# Altium schematic symbol library ALTERA.SCHLIB: 27 symbols
Pins are listed as number, name and electrical type; pins without a type are passive.

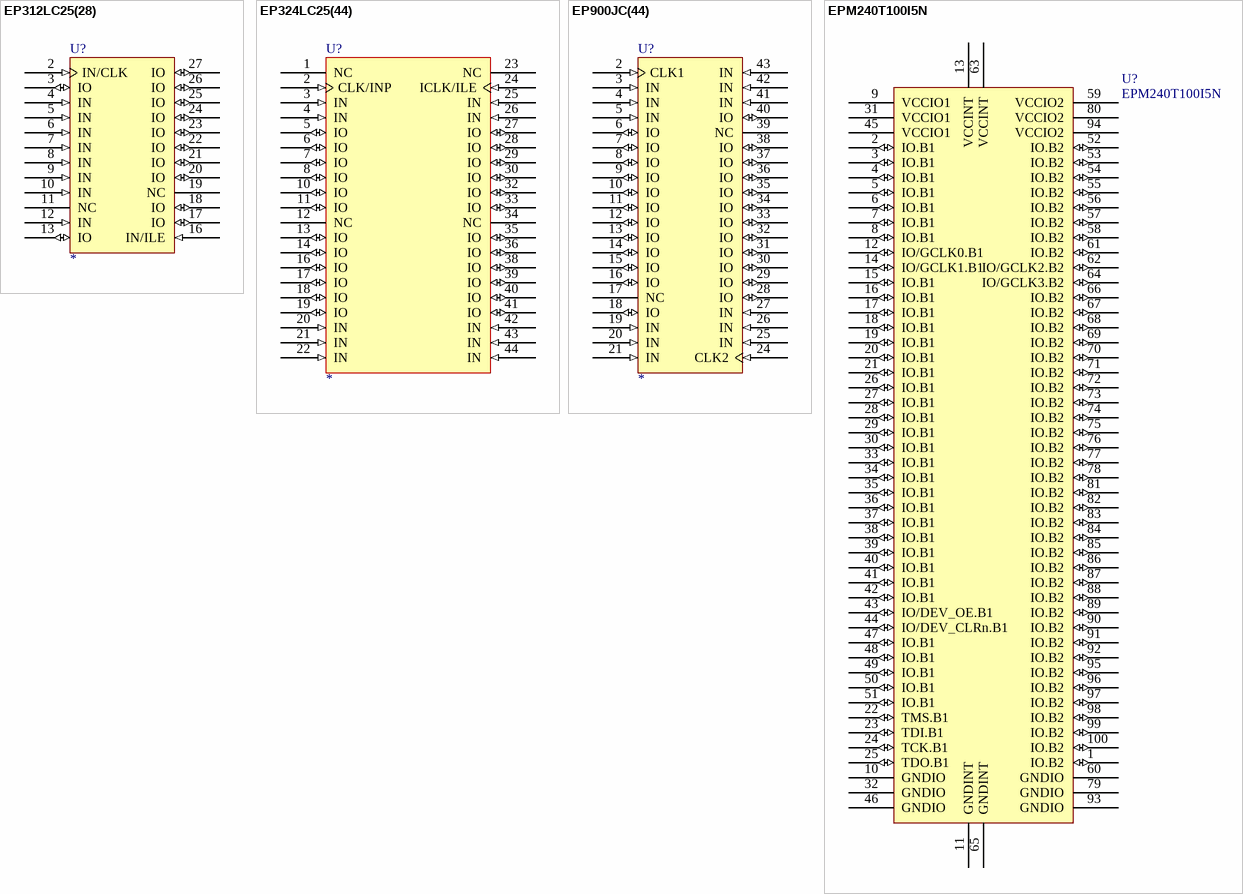
[diagram p0: symbols EP312LC25(28) to EPM240T100I5N]

## EP312LC25(28)
designator U?
ERASABLE PROGRAMMABLE LOGIC DEVICE(8-MACROCELL)
pins: 1 VCC (power) hidden to VCC, 2 IN/CLK (in), 3 IO (io), 4 IN (in), 5 IN (in), 6 IN (in), 7 IN (in), 8 IN (in), 9 IN (in), 10 IN (in), 11 NC, 12 IN (in), 13 IO (io), 14 GND (power) hidden to GND, 15 GND (power) hidden to GND, 16 IN/ILE (in), 17 IO (io), 18 IO (io), 19 NC, 20 IO (io), 21 IO (io), 22 IO (io), 23 IO (io), 24 IO (io), 25 IO (io), 26 IO (io), 27 IO (io), 28 VCC (power) hidden to VCC

## EP324LC25(44)
designator U?
ERASABLE PROGRAMMABLE LOGIC DEVICE(8-MACROCELL)
footprint PLCC44
pins: 1 NC, 2 CLK/INP (in), 3 IN (in), 4 IN (in), 5 IO (io), 6 IO (io), 7 IO (io), 8 IO (io), 9 GND (power) hidden to GND, 10 IO (io), 11 IO (io), 12 NC, 13 IO (io), 14 IO (io), 15 VCC (power) hidden to VCC, 16 IO (io), 17 IO (io), 18 IO (io), 19 IO (io), 20 IN (in), 21 IN (in), 22 IN (in), 23 NC, 24 ICLK/ILE (in), 25 IN (in), 26 IN (in), 27 IO (io), 28 IO (io), 29 IO (io), 30 IO (io), 31 GND (power) hidden to GND, 32 IO (io), 33 IO (io), 34 NC, 35 IO (io), 36 IO (io), 37 VCC (power) hidden to VCC, 38 IO (io), 39 IO (io), 40 IO (io), 41 IO (io), 42 IN (in), 43 IN (in), 44 IN (in)

## EP900JC(44)
designator U?
CLASSIC ERASABLE PROGRAMMABLE LOGIC DEVICE(24-MACROCELL)
footprint PLCC44
pins: 1 VCC (power) hidden to VCC, 2 CLK1 (in), 3 IN (in), 4 IN (in), 5 IN (in), 6 IO (io), 7 IO (io), 8 IO (io), 9 IO (io), 10 IO (io), 11 IO (io), 12 IO (io), 13 IO (io), 14 IO (io), 15 IO (io), 16 IO (io), 17 NC, 18 IO (io), 19 IN (in), 20 IN (in), 21 IN (in), 22 GND (power) hidden to GND, 23 GND (power) hidden to GND, 24 CLK2 (in), 25 IN (in), 26 IN (in), 27 IN (in), 28 IO (io), 29 IO (io), 30 IO (io), 31 IO (io), 32 IO (io), 33 IO (io), 34 IO (io), 35 IO (io), 36 IO (io), 37 IO (io), 38 IO (io), 39 NC, 40 IO (io), 41 IN (in), 42 IN (in), 43 IN (in), 44 VCC (power) hidden to VCC

## EPM240T100I5N
designator U?
Value: EPM240T100I5N
footprint MS-026BED
pins: 1 IO.B2 (io), 2 IO.B1 (io), 3 IO.B1 (io), 4 IO.B1 (io), 5 IO.B1 (io), 6 IO.B1 (io), 7 IO.B1 (io), 8 IO.B1 (io), 9 VCCIO1 (power), 10 GNDIO (power), 11 GNDINT (power), 12 IO/GCLK0.B1 (io), 13 VCCINT (power), 14 IO/GCLK1.B1 (io), 15 IO.B1 (io), 16 IO.B1 (io), 17 IO.B1 (io), 18 IO.B1 (io), 19 IO.B1 (io), 20 IO.B1 (io), 21 IO.B1 (io), 22 TMS.B1 (io), 23 TDI.B1 (io), 24 TCK.B1 (io), 25 TDO.B1 (io), 26 IO.B1 (io), 27 IO.B1 (io), 28 IO.B1 (io), 29 IO.B1 (io), 30 IO.B1 (io), 31 VCCIO1 (power), 32 GNDIO (power), 33 IO.B1 (io), 34 IO.B1 (io), 35 IO.B1 (io), 36 IO.B1 (io), 37 IO.B1 (io), 38 IO.B1 (io), 39 IO.B1 (io), 40 IO.B1 (io), 41 IO.B1 (io), 42 IO.B1 (io), 43 IO/DEV_OE.B1 (io), 44 IO/DEV_CLRn.B1 (io), 45 VCCIO1 (power), 46 GNDIO (power), 47 IO.B1 (io), 48 IO.B1 (io), 49 IO.B1 (io), 50 IO.B1 (io), 51 IO.B1 (io), 52 IO.B2 (io), 53 IO.B2 (io), 54 IO.B2 (io), 55 IO.B2 (io), 56 IO.B2 (io), 57 IO.B2 (io), 58 IO.B2 (io), 59 VCCIO2 (power), 60 GNDIO (power), 61 IO.B2 (io), 62 IO/GCLK2.B2 (io), 63 VCCINT (power), 64 IO/GCLK3.B2 (io), 65 GNDINT (power), 66 IO.B2 (io), 67 IO.B2 (io), 68 IO.B2 (io), 69 IO.B2 (io), 70 IO.B2 (io), 71 IO.B2 (io), 72 IO.B2 (io), 73 IO.B2 (io), 74 IO.B2 (io), 75 IO.B2 (io), 76 IO.B2 (io), 77 IO.B2 (io), 78 IO.B2 (io), 79 GNDIO (power), 80 VCCIO2 (power), 81 IO.B2 (io), 82 IO.B2 (io), 83 IO.B2 (io), 84 IO.B2 (io), 85 IO.B2 (io), 86 IO.B2 (io), 87 IO.B2 (io), 88 IO.B2 (io), 89 IO.B2 (io), 90 IO.B2 (io), 91 IO.B2 (io), 92 IO.B2 (io), 93 GNDIO (power), 94 VCCIO2 (power), 95 IO.B2 (io), 96 IO.B2 (io), 97 IO.B2 (io), 98 IO.B2 (io), 99 IO.B2 (io), 100 IO.B2 (io)

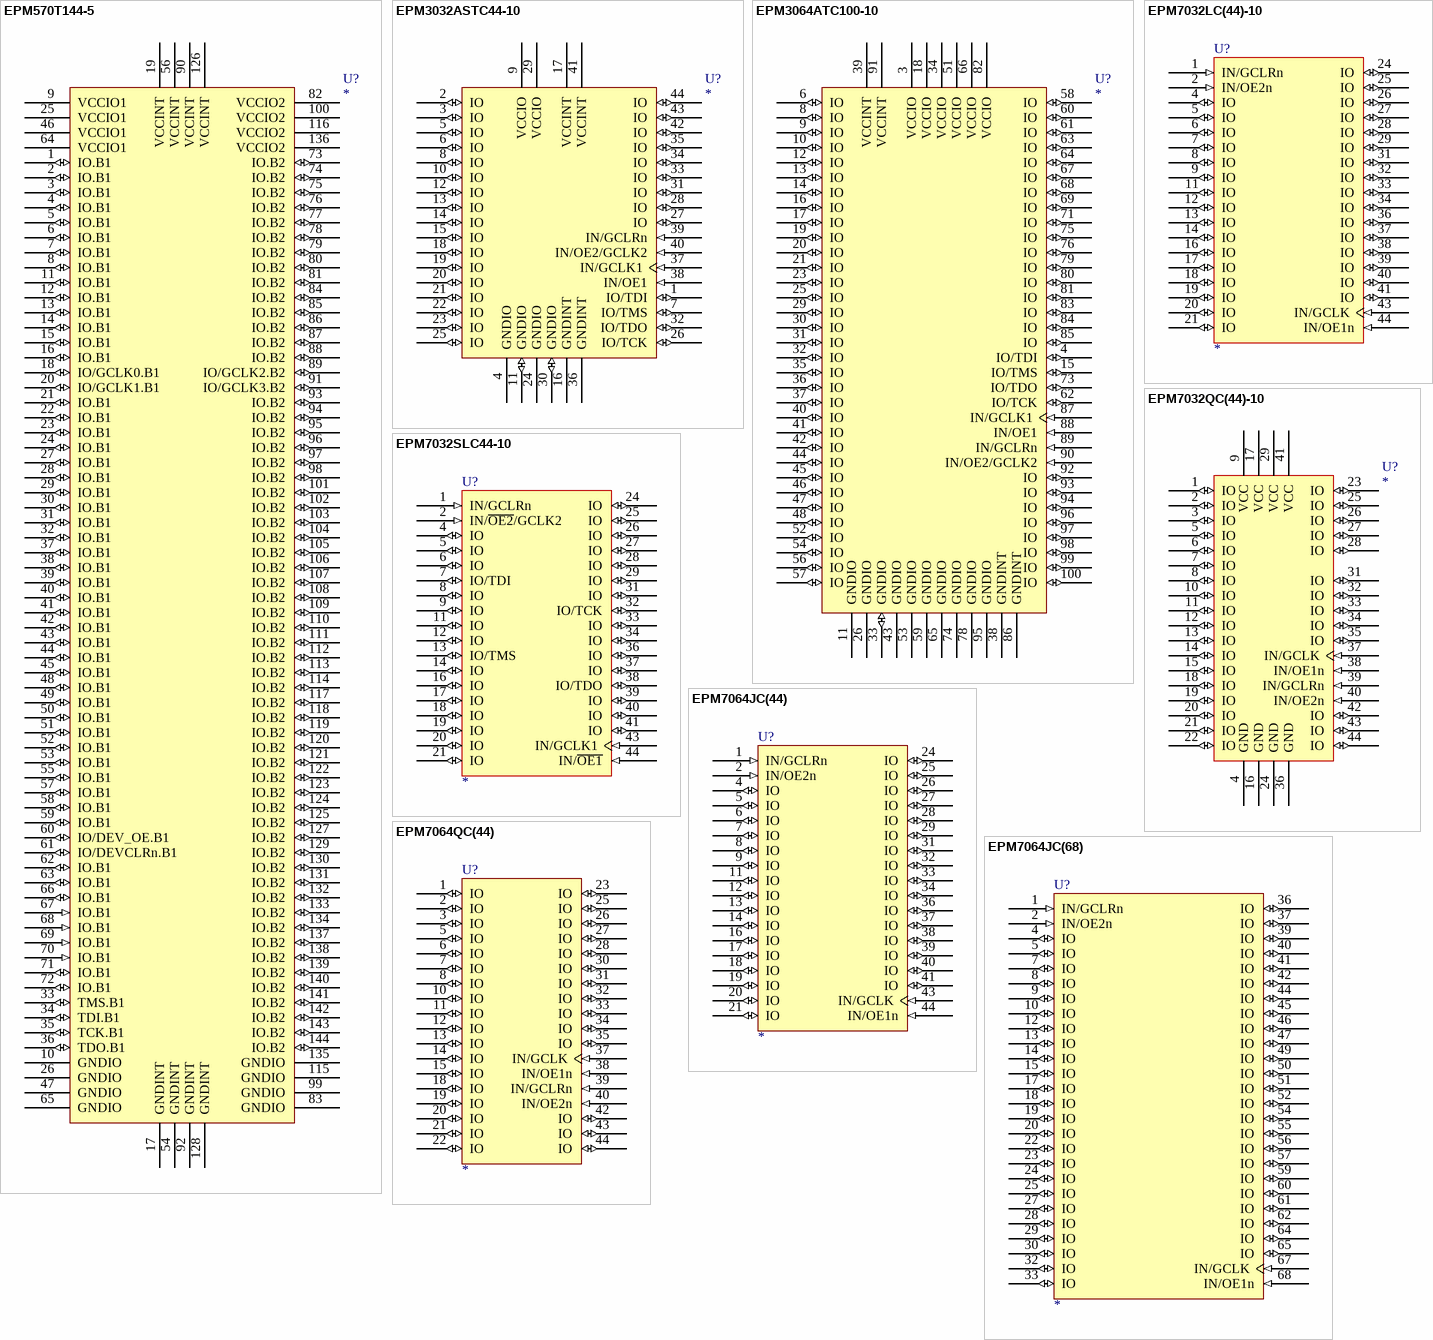
[diagram p1: symbols EPM570T144-5 to EPM7064QC(44)]

## EPM570T144-5
designator U?
footprint MS-026BFB
pins: 1 IO.B1 (io), 2 IO.B1 (io), 3 IO.B1 (io), 4 IO.B1 (io), 5 IO.B1 (io), 6 IO.B1 (io), 7 IO.B1 (io), 8 IO.B1 (io), 9 VCCIO1 (power), 10 GNDIO (power), 11 IO.B1 (io), 12 IO.B1 (io), 13 IO.B1 (io), 14 IO.B1 (io), 15 IO.B1 (io), 16 IO.B1 (io), 17 GNDINT (power), 18 IO/GCLK0.B1 (io), 19 VCCINT (power), 20 IO/GCLK1.B1 (io), 21 IO.B1 (io), 22 IO.B1 (io), 23 IO.B1 (io), 24 IO.B1 (io), 25 VCCIO1 (power), 26 GNDIO (power), 27 IO.B1 (io), 28 IO.B1 (io), 29 IO.B1 (io), 30 IO.B1 (io), 31 IO.B1 (io), 32 IO.B1 (io), 33 TMS.B1 (io), 34 TDI.B1 (io), 35 TCK.B1 (io), 36 TDO.B1 (io), 37 IO.B1 (io), 38 IO.B1 (io), 39 IO.B1 (io), 40 IO.B1 (io), 41 IO.B1 (io), 42 IO.B1 (io), 43 IO.B1 (io), 44 IO.B1 (io), 45 IO.B1 (io), 46 VCCIO1 (power), 47 GNDIO (power), 48 IO.B1 (io), 49 IO.B1 (io), 50 IO.B1 (io), 51 IO.B1 (io), 52 IO.B1 (io), 53 IO.B1 (io), 54 GNDINT (power), 55 IO.B1 (io), 56 VCCINT (power), 57 IO.B1 (io), 58 IO.B1 (io), 59 IO.B1 (io), 60 IO/DEV_OE.B1 (io), 61 IO/DEVCLRn.B1 (io), 62 IO.B1 (io), 63 IO.B1 (io), 64 VCCIO1 (power), 65 GNDIO (power), 66 IO.B1 (io), 67 IO.B1 (in), 68 IO.B1 (in), 69 IO.B1 (in), 70 IO.B1 (in), 71 IO.B1 (io), 72 IO.B1 (io), 73 IO.B2 (io), 74 IO.B2 (io), 75 IO.B2 (io), 76 IO.B2 (io), 77 IO.B2 (io), 78 IO.B2 (io), 79 IO.B2 (io), 80 IO.B2 (io), 81 IO.B2 (io), 82 VCCIO2 (power), 83 GNDIO (power), 84 IO.B2 (io), 85 IO.B2 (io), 86 IO.B2 (io), 87 IO.B2 (io), 88 IO.B2 (io), 89 IO/GCLK2.B2 (io), 90 VCCINT (power), 91 IO/GCLK3.B2 (io), 92 GNDINT (power), 93 IO.B2 (io), 94 IO.B2 (io), 95 IO.B2 (io), 96 IO.B2 (io), 97 IO.B2 (io), 98 IO.B2 (io), 99 GNDIO (power), 100 VCCIO2 (power), 101 IO.B2 (io), 102 IO.B2 (io), 103 IO.B2 (io), 104 IO.B2 (io), 105 IO.B2 (io), 106 IO.B2 (io), 107 IO.B2 (io), 108 IO.B2 (io), 109 IO.B2 (io), 110 IO.B2 (io), 111 IO.B2 (io), 112 IO.B2 (io), 113 IO.B2 (io), 114 IO.B2 (io), 115 GNDIO (power), 116 VCCIO2 (power), 117 IO.B2 (io), 118 IO.B2 (io), 119 IO.B2 (io), 120 IO.B2 (io), 121 IO.B2 (io), 122 IO.B2 (io), 123 IO.B2 (io), 124 IO.B2 (io), 125 IO.B2 (io), 126 VCCINT (power), 127 IO.B2 (io), 128 GNDINT (power), 129 IO.B2 (io), 130 IO.B2 (io), 131 IO.B2 (io), 132 IO.B2 (io), 133 IO.B2 (io), 134 IO.B2 (io), 135 GNDIO (power), 136 VCCIO2 (power), 137 IO.B2 (io), 138 IO.B2 (io), 139 IO.B2 (io), 140 IO.B2 (io), 141 IO.B2 (io), 142 IO.B2 (io), 143 IO.B2 (io), 144 IO.B2 (io)

## EPM3032ASTC44-10
designator U?
footprint MS-026BCB
pins: 1 IO/TDI (io), 2 IO (io), 3 IO (io), 4 GNDIO (power), 5 IO (io), 6 IO (io), 7 IO/TMS (io), 8 IO (io), 9 VCCIO (power), 10 IO (io), 11 GNDIO (io), 12 IO (io), 13 IO (io), 14 IO (io), 15 IO (io), 16 GNDINT (power), 17 VCCINT (power), 18 IO (io), 19 IO (io), 20 IO (io), 21 IO (io), 22 IO (io), 23 IO (io), 24 GNDIO (power), 25 IO (io), 26 IO/TCK (io), 27 IO (io), 28 IO (io), 29 VCCIO (power), 30 GNDIO (io), 31 IO (io), 32 IO/TDO (io), 33 IO (io), 34 IO (io), 35 IO (io), 36 GNDINT (power), 37 IN/GCLK1 (in), 38 IN/OE1 (in), 39 IN/GCLRn (in), 40 IN/OE2/GCLK2 (in), 41 VCCINT (power), 42 IO (io), 43 IO (io), 44 IO (io)

## EPM3064ATC100-10
designator U?
footprint MS-026BED
pins: 3 VCCIO (power), 4 IO/TDI (io), 6 IO (io), 8 IO (io), 9 IO (io), 10 IO (io), 11 GNDIO (power), 12 IO (io), 13 IO (io), 14 IO (io), 15 IO/TMS (io), 16 IO (io), 17 IO (io), 18 VCCIO (power), 19 IO (io), 20 IO (io), 21 IO (io), 23 IO (io), 25 IO (io), 26 GNDIO (power), 29 IO (io), 30 IO (io), 31 IO (io), 32 IO (io), 33 GNDIO (io), 34 VCCIO (power), 35 IO (io), 36 IO (io), 37 IO (io), 38 GNDINT (power), 39 VCCINT (power), 40 IO (io), 41 IO (io), 42 IO (io), 43 GNDIO (power), 44 IO (io), 45 IO (io), 46 IO (io), 47 IO (io), 48 IO (io), 51 VCCIO (power), 52 IO (io), 53 GNDIO, 54 IO (io), 56 IO (io), 57 IO (io), 58 IO (io), 59 GNDIO (power), 60 IO (io), 61 IO (io), 62 IO/TCK (io), 63 IO (io), 64 IO (io), 65 GNDIO (power), 66 VCCIO (power), 67 IO (io), 68 IO (io), 69 IO (io), 71 IO (io), 73 IO/TDO (io), 74 GNDIO (power), 75 IO (io), 76 IO (io), 78 GNDIO, 79 IO (io), 80 IO (io), 81 IO (io), 82 VCCIO (power), 83 IO (io), 84 IO (io), 85 IO (io), 86 GNDINT (power), 87 IN/GCLK1 (in), 88 IN/OE1 (in), 89 IN/GCLRn (in), 90 IN/OE2/GCLK2 (in), 91 VCCINT (power), 92 IO (io), 93 IO (io), 94 IO (io), 95 GNDIO (power), 96 IO (io), 97 IO (io), 98 IO (io), 99 IO (io), 100 IO (io)

## EPM7032LC(44)-10
designator U?
MAX7000 PROGRAMMABLE LOGIC DEVICE(32 MACRO CELLS)
footprint PLCC44
footprint PLCC44P
pins: 1 IN/GCLRn (in), 2 IN/OE2n (in), 3 VCC (power) hidden to VCC, 4 IO (io), 5 IO (io), 6 IO (io), 7 IO (io), 8 IO (io), 9 IO (io), 10 GND (power) hidden to GND, 11 IO (io), 12 IO (io), 13 IO (io), 14 IO (io), 15 VCC (power) hidden to VCC, 16 IO (io), 17 IO (io), 18 IO (io), 19 IO (io), 20 IO (io), 21 IO (io), 22 GND (power) hidden to GND, 23 VCC (power) hidden to VCC, 24 IO (io), 25 IO (io), 26 IO (io), 27 IO (io), 28 IO (io), 29 IO (io), 30 GND (power) hidden to GND, 31 IO (io), 32 IO (io), 33 IO (io), 34 IO (io), 35 VCC (power) hidden to VCC, 36 IO (io), 37 IO (io), 38 IO (io), 39 IO (io), 40 IO (io), 41 IO (io), 42 GND (power) hidden to GND, 43 IN/GCLK (in), 44 IN/OE1n (in)

## EPM7032QC(44)-10
designator U?
MAX7000 PROGRAMMABLE LOGIC DEVICE(32 MACRO CELLS)
pins: 1 IO (io), 2 IO (io), 3 IO (io), 4 GND, 5 IO (io), 6 IO (io), 7 IO (io), 8 IO (io), 9 VCC, 10 IO (io), 11 IO (io), 12 IO (io), 13 IO (io), 14 IO (io), 15 IO (io), 16 GND, 17 VCC, 18 IO (io), 19 IO (io), 20 IO (io), 21 IO (io), 22 IO (io), 23 IO (io), 24 GND, 25 IO (io), 26 IO (io), 27 IO (io), 28 IO (io), 29 VCC, 30 I/O (power) hidden to I/O, 31 IO (io), 32 IO (io), 33 IO (io), 34 IO (io), 35 IO (io), 36 GND, 37 IN/GCLK (in), 38 IN/OE1n (in), 39 IN/GCLRn (in), 40 IN/OE2n (in), 41 VCC, 42 IO (io), 43 IO (io), 44 IO (io)

## EPM7032SLC44-10
designator U?
footprint PLCC44P
footprint PLCC44
pins: 1 IN/GCLRn (in), 2 IN/~{OE2}/GCLK2 (in), 3 VCC (power) hidden to VCC, 4 IO (io), 5 IO (io), 6 IO (io), 7 IO/TDI (io), 8 IO (io), 9 IO (io), 10 GND (power) hidden to GND, 11 IO (io), 12 IO (io), 13 IO/TMS (io), 14 IO (io), 15 VCC (power) hidden to VCC, 16 IO (io), 17 IO (io), 18 IO (io), 19 IO (io), 20 IO (io), 21 IO (io), 22 GND (power) hidden to GND, 23 VCC (power) hidden to VCC, 24 IO (io), 25 IO (io), 26 IO (io), 27 IO (io), 28 IO (io), 29 IO (io), 30 GND (power) hidden to GND, 31 IO (io), 32 IO/TCK (io), 33 IO (io), 34 IO (io), 35 VCC (power) hidden to VCC, 36 IO (io), 37 IO (io), 38 IO/TDO (io), 39 IO (io), 40 IO (io), 41 IO (io), 42 GND (power) hidden to GND, 43 IN/GCLK1 (in), 44 IN/~{OE1} (in)

## EPM7064JC(44)
designator U?
MAX7000 PROGRAMMABLE LOGIC DEVICE(64 MACRO CELLS)
pins: 1 IN/GCLRn (in), 2 IN/OE2n (in), 3 VCCINT (power) hidden to VCCINT, 4 IO (io), 5 IO (io), 6 IO (io), 7 IO (io), 8 IO (io), 9 IO (io), 10 GND (power) hidden to GND, 11 IO (io), 12 IO (io), 13 IO (io), 14 IO (io), 15 VCCINT (power) hidden to VCCINT, 16 IO (io), 17 IO (io), 18 IO (io), 19 IO (io), 20 IO (io), 21 IO (io), 22 GND (power) hidden to GND, 23 VCCINT (power) hidden to VCCINT, 24 IO (io), 25 IO (io), 26 IO (io), 27 IO (io), 28 IO (io), 29 IO (io), 30 GND (power) hidden to GND, 31 IO (io), 32 IO (io), 33 IO (io), 34 IO (io), 35 VCCINT (power) hidden to VCCINT, 36 IO (io), 37 IO (io), 38 IO (io), 39 IO (io), 40 IO (io), 41 IO (io), 42 GND (power) hidden to GND, 43 IN/GCLK (in), 44 IN/OE1n (in)

## EPM7064JC(68)
designator U?
MAX7000 PROGRAMMABLE LOGIC DEVICE(64 MACRO CELLS)
footprint PLCC68
pins: 1 IN/GCLRn (in), 2 IN/OE2n (in), 3 VCCINT (power) hidden to VCCINT, 4 IO (io), 5 IO (io), 6 GND (power) hidden to GND, 7 IO (io), 8 IO (io), 9 IO (io), 10 IO (io), 11 VCCIO (power) hidden to VCCIO, 12 IO (io), 13 IO (io), 14 IO (io), 15 IO (io), 16 GND (power) hidden to GND, 17 IO (io), 18 IO (io), 19 IO (io), 20 IO (io), 21 VCCIO (power) hidden to VCCIO, 22 IO (io), 23 IO (io), 24 IO (io), 25 IO (io), 26 GND (power) hidden to GND, 27 IO (io), 28 IO (io), 29 IO (io), 30 IO (io), 31 VCCIO (power) hidden to VCCIO, 32 IO (io), 33 IO (io), 34 GND (power) hidden to GND, 35 VCCINT (power) hidden to VCCINT, 36 IO (io), 37 IO (io), 38 GND (power) hidden to GND, 39 IO (io), 40 IO (io), 41 IO (io), 42 IO (io), 43 VCCIO (power) hidden to VCCIO, 44 IO (io), 45 IO (io), 46 IO (io), 47 IO (io), 48 GND (power) hidden to GND, 49 IO (io), 50 IO (io), 51 IO (io), 52 IO (io), 53 VCCIO (power) hidden to VCCIO, 54 IO (io), 55 IO (io), 56 IO (io), 57 IO (io), 58 GND (power) hidden to GND, 59 IO (io), 60 IO (io), 61 IO (io), 62 IO (io), 63 VCCIO (power) hidden to VCCIO, 64 IO (io), 65 IO (io), 66 GND (power) hidden to GND, 67 IN/GCLK (in), 68 IN/OE1n (in)

## EPM7064QC(44)
designator U?
MAX7000 PROGRAMMABLE LOGIC DEVICE(64 MACRO CELLS)
pins: 1 IO (io), 2 IO (io), 3 IO (io), 4 GND (power) hidden to GND, 5 IO (io), 6 IO (io), 7 IO (io), 8 IO (io), 9 VCCINT (power) hidden to VCCINT, 10 IO (io), 11 IO (io), 12 IO (io), 13 IO (io), 14 IO (io), 15 IO (io), 16 GND (power) hidden to GND, 17 VCCINT (power) hidden to VCCINT, 18 IO (io), 19 IO (io), 20 IO (io), 21 IO (io), 22 IO (io), 23 IO (io), 24 GND (power) hidden to GND, 25 IO (io), 26 IO (io), 27 IO (io), 28 IO (io), 29 VCCINT (power) hidden to VCCINT, 30 IO (io), 31 IO (io), 32 IO (io), 33 IO (io), 34 IO (io), 35 IO (io), 36 GND (power) hidden to GND, 37 IN/GCLK (in), 38 IN/OE1n (in), 39 IN/GCLRn (in), 40 IN/OE2n (in), 41 VCCINT (power) hidden to VCCINT, 42 IO (io), 43 IO (io), 44 IO (io)

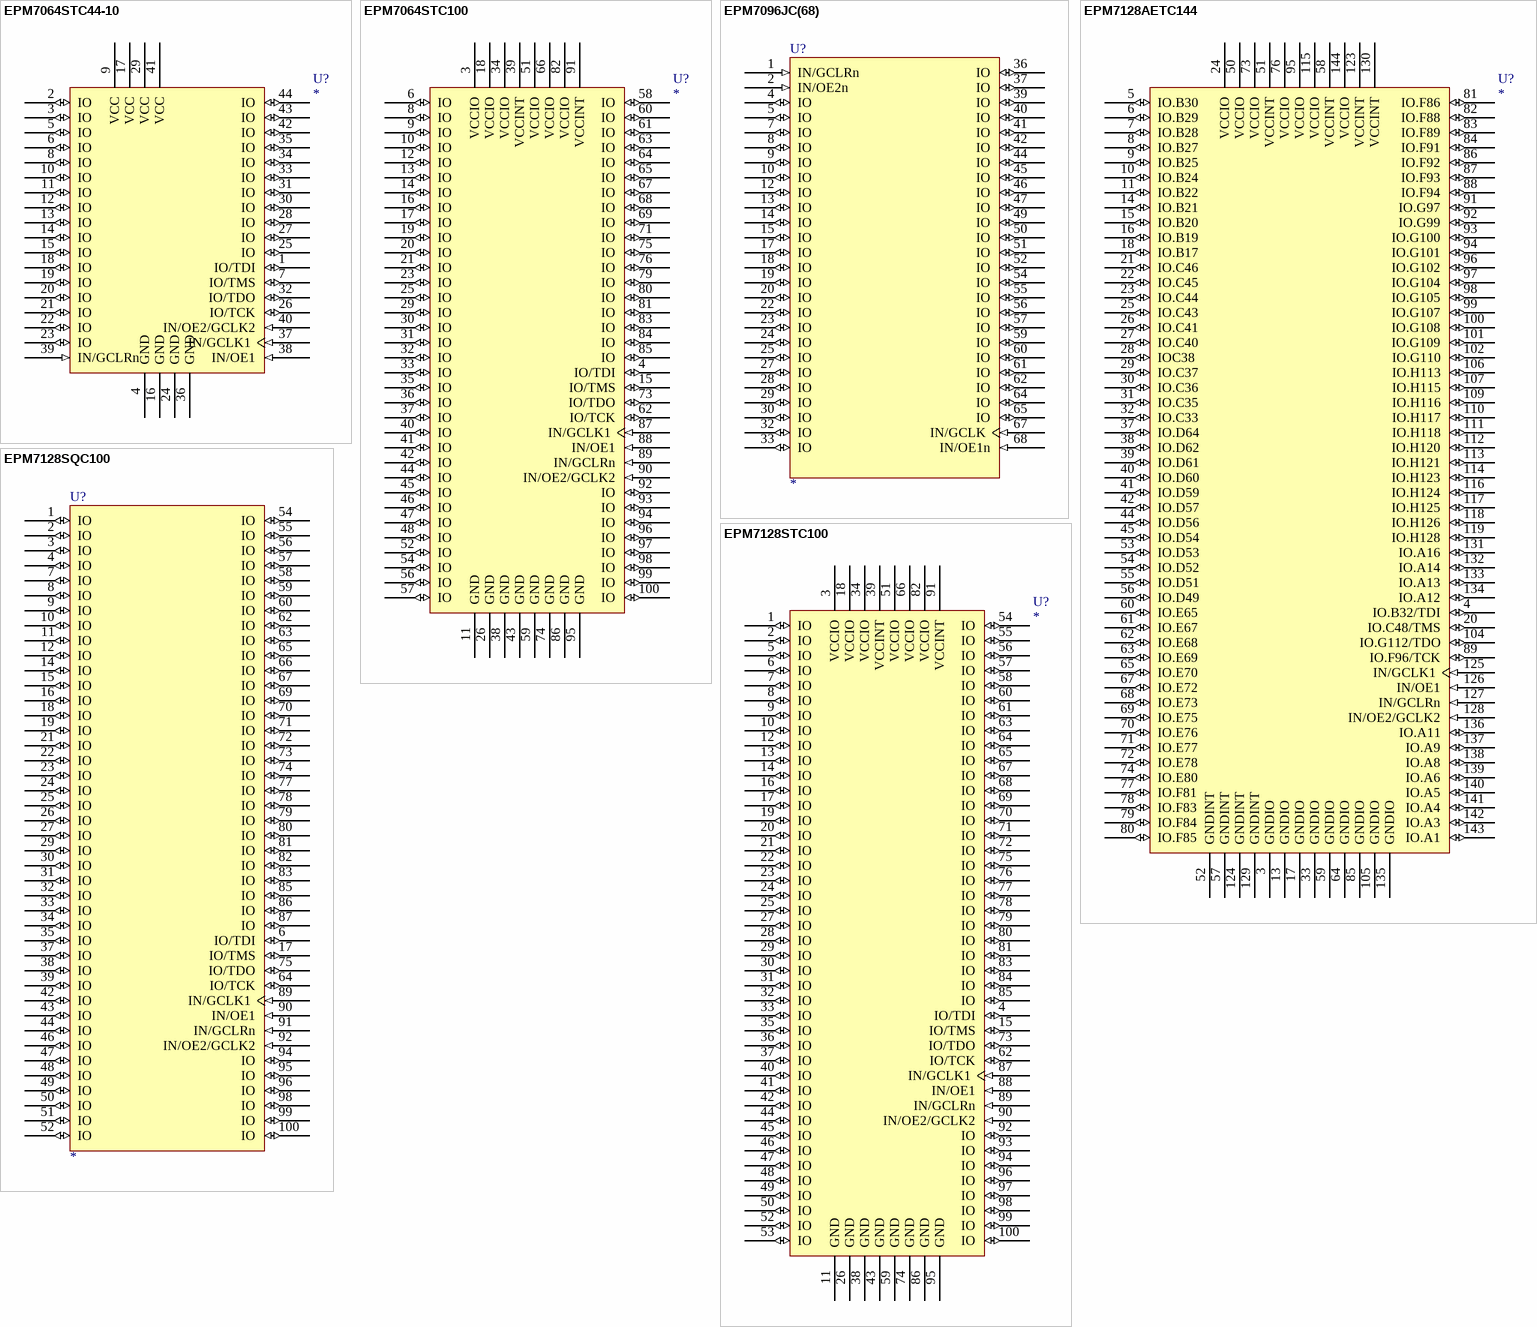
[diagram p2: symbols EPM7064STC44-10 to EPM7128STC100]

## EPM7064STC44-10
designator U?
footprint MS-026BCB
pins: 1 IO/TDI (io), 2 IO (io), 3 IO (io), 4 GND (power), 5 IO (io), 6 IO (io), 7 IO/TMS (io), 8 IO (io), 9 VCC (power), 10 IO (io), 11 IO (io), 12 IO (io), 13 IO (io), 14 IO (io), 15 IO (io), 16 GND (power), 17 VCC (power), 18 IO (io), 19 IO (io), 20 IO (io), 21 IO (io), 22 IO (io), 23 IO (io), 24 GND (power), 25 IO (io), 26 IO/TCK (io), 27 IO (io), 28 IO (io), 29 VCC (power), 30 IO (io), 31 IO (io), 32 IO/TDO (io), 33 IO (io), 34 IO (io), 35 IO (io), 36 GND (power), 37 IN/GCLK1 (in), 38 IN/OE1 (in), 39 IN/GCLRn (in), 40 IN/OE2/GCLK2 (in), 41 VCC (power), 42 IO (io), 43 IO (io), 44 IO (io)

## EPM7064STC100
designator U?
MAX7000 PROGRAMMABLE LOGIC DEVICE(128 MACRO CELLS)
footprint MS-026BED
pins: 3 VCCIO, 4 IO/TDI (io), 6 IO (io), 8 IO (io), 9 IO (io), 10 IO (io), 11 GND, 12 IO (io), 13 IO (io), 14 IO (io), 15 IO/TMS (io), 16 IO (io), 17 IO (io), 18 VCCIO, 19 IO (io), 20 IO (io), 21 IO (io), 23 IO (io), 25 IO (io), 26 GND, 29 IO (io), 30 IO (io), 31 IO (io), 32 IO (io), 33 IO (io), 34 VCCIO, 35 IO (io), 36 IO (io), 37 IO (io), 38 GND, 39 VCCINT, 40 IO (io), 41 IO (io), 42 IO (io), 43 GND, 44 IO (io), 45 IO (io), 46 IO (io), 47 IO (io), 48 IO (io), 51 VCCIO, 52 IO (io), 54 IO (io), 56 IO (io), 57 IO (io), 58 IO (io), 59 GND, 60 IO (io), 61 IO (io), 62 IO/TCK (io), 63 IO (io), 64 IO (io), 65 IO (io), 66 VCCIO, 67 IO (io), 68 IO (io), 69 IO (io), 71 IO (io), 73 IO/TDO (io), 74 GND, 75 IO (io), 76 IO (io), 79 IO (io), 80 IO (io), 81 IO (io), 82 VCCIO, 83 IO (io), 84 IO (io), 85 IO (io), 86 GND, 87 IN/GCLK1 (in), 88 IN/OE1 (in), 89 IN/GCLRn (in), 90 IN/OE2/GCLK2 (in), 91 VCCINT, 92 IO (io), 93 IO (io), 94 IO (io), 95 GND, 96 IO (io), 97 IO (io), 98 IO (io), 99 IO (io), 100 IO (io)

## EPM7096JC(68)
designator U?
MAX7000 PROGRAMMABLE LOGIC DEVICE(96 MACRO CELLS)
footprint PLCC68
pins: 1 IN/GCLRn (in), 2 IN/OE2n (in), 3 VCCINT (power) hidden to VCCINT, 4 IO (io), 5 IO (io), 6 GND (power) hidden to GND, 7 IO (io), 8 IO (io), 9 IO (io), 10 IO (io), 11 VCCIO (power) hidden to VCCIO, 12 IO (io), 13 IO (io), 14 IO (io), 15 IO (io), 16 GND (power) hidden to GND, 17 IO (io), 18 IO (io), 19 IO (io), 20 IO (io), 21 VCCIO (power) hidden to VCCIO, 22 IO (io), 23 IO (io), 24 IO (io), 25 IO (io), 26 GND (power) hidden to GND, 27 IO (io), 28 IO (io), 29 IO (io), 30 IO (io), 31 VCCIO (power) hidden to VCCIO, 32 IO (io), 33 IO (io), 34 GND (power) hidden to GND, 35 VCCINT (power) hidden to VCCINT, 36 IO (io), 37 IO (io), 38 GND (power) hidden to GND, 39 IO (io), 40 IO (io), 41 IO (io), 42 IO (io), 43 VCCIO (power) hidden to VCCIO, 44 IO (io), 45 IO (io), 46 IO (io), 47 IO (io), 48 GND (power) hidden to GND, 49 IO (io), 50 IO (io), 51 IO (io), 52 IO (io), 53 VCCIO (power) hidden to VCCIO, 54 IO (io), 55 IO (io), 56 IO (io), 57 IO (io), 58 GND (power) hidden to GND, 59 IO (io), 60 IO (io), 61 IO (io), 62 IO (io), 63 VCCIO (power) hidden to VCCIO, 64 IO (io), 65 IO (io), 66 GND (power) hidden to GND, 67 IN/GCLK (in), 68 IN/OE1n (in)

## EPM7128AETC144
designator U?
footprint MS-026BFB
pins: 3 GNDIO (power), 4 IO.B32/TDI (io), 5 IO.B30 (io), 6 IO.B29 (io), 7 IO.B28 (io), 8 IO.B27 (io), 9 IO.B25 (io), 10 IO.B24 (io), 11 IO.B22 (io), 13 GNDIO (power), 14 IO.B21 (io), 15 IO.B20 (io), 16 IO.B19 (io), 17 GNDIO (power), 18 IO.B17 (io), 20 IO.C48/TMS (io), 21 IO.C46 (io), 22 IO.C45 (io), 23 IO.C44 (io), 24 VCCIO (power), 25 IO.C43 (io), 26 IO.C41 (io), 27 IO.C40 (io), 28 IOC38 (io), 29 IO.C37 (io), 30 IO.C36 (io), 31 IO.C35 (io), 32 IO.C33 (io), 33 GNDIO (power), 37 IO.D64 (io), 38 IO.D62 (io), 39 IO.D61 (io), 40 IO.D60 (io), 41 IO.D59 (io), 42 IO.D57 (io), 44 IO.D56 (io), 45 IO.D54 (io), 50 VCCIO (power), 51 VCCINT (power), 52 GNDINT (power), 53 IO.D53 (io), 54 IO.D52 (io), 55 IO.D51 (io), 56 IO.D49 (io), 57 GNDINT (power), 58 VCCINT (power), 59 GNDIO (power), 60 IO.E65 (io), 61 IO.E67 (io), 62 IO.E68 (io), 63 IO.E69 (io), 64 GNDIO (power), 65 IO.E70 (io), 67 IO.E72 (io), 68 IO.E73 (io), 69 IO.E75 (io), 70 IO.E76 (io), 71 IO.E77 (io), 72 IO.E78 (io), 73 VCCIO (power), 74 IO.E80 (io), 76 VCCIO (power), 77 IO.F81 (io), 78 IO.F83 (io), 79 IO.F84 (io), 80 IO.F85 (io), 81 IO.F86 (io), 82 IO.F88 (io), 83 IO.F89 (io), 84 IO.F91 (io), 85 GNDIO (power), 86 IO.F92 (io), 87 IO.F93 (io), 88 IO.F94 (io), 89 IO.F96/TCK (io), 91 IO.G97 (io), 92 IO.G99 (io), 93 IO.G100 (io), 94 IO.G101 (io), 95 VCCIO (power), 96 IO.G102 (io), 97 IO.G104 (io), 98 IO.G105 (io), 99 IO.G107 (io), 100 IO.G108 (io), 101 IO.G109 (io), 102 IO.G110 (io), 104 IO.G112/TDO (io), 105 GNDIO (power), 106 IO.H113 (io), 107 IO.H115 (io), 109 IO.H116 (io), 110 IO.H117 (io), 111 IO.H118 (io), 112 IO.H120 (io), 113 IO.H121 (io), 114 IO.H123 (io), 115 VCCIO (power), 116 IO.H124 (io), 117 IO.H125 (io), 118 IO.H126 (io), 119 IO.H128 (io), 123 VCCINT (power), 124 GNDINT (power), 125 IN/GCLK1 (in), 126 IN/OE1 (in), 127 IN/GCLRn (in), 128 IN/OE2/GCLK2 (in), 129 GNDINT (power), 130 VCCINT (power), 131 IO.A16 (io), 132 IO.A14 (io), 133 IO.A13 (io), 134 IO.A12 (io), 135 GNDIO (power), 136 IO.A11 (io), 137 IO.A9 (io), 138 IO.A8 (io), 139 IO.A6 (io), 140 IO.A5 (io), 141 IO.A4 (io), 142 IO.A3 (io), 143 IO.A1 (io), 144 VCCIO (power)
1 alternate drawing of the same symbol

## EPM7128SQC100
designator U?
MAX7000 PROGRAMMABLE LOGIC DEVICE(128 MACRO CELLS)
footprint MS-026BHA
pins: 1 IO (io), 2 IO (io), 3 IO (io), 4 IO (io), 5 VCCIO (power) hidden to VCCIO, 6 IO/TDI (io), 7 IO (io), 8 IO (io), 9 IO (io), 10 IO (io), 11 IO (io), 12 IO (io), 13 GND (power) hidden to GND, 14 IO (io), 15 IO (io), 16 IO (io), 17 IO/TMS (io), 18 IO (io), 19 IO (io), 20 VCCIO (power) hidden to VCCIO, 21 IO (io), 22 IO (io), 23 IO (io), 24 IO (io), 25 IO (io), 26 IO (io), 27 IO (io), 28 GND (power) hidden to GND, 29 IO (io), 30 IO (io), 31 IO (io), 32 IO (io), 33 IO (io), 34 IO (io), 35 IO (io), 36 VCCIO (power) hidden to VCCIO, 37 IO (io), 38 IO (io), 39 IO (io), 40 GND (power) hidden to GND, 41 VCCINT (power) hidden to VCCINT, 42 IO (io), 43 IO (io), 44 IO (io), 45 GND (power) hidden to GND, 46 IO (io), 47 IO (io), 48 IO (io), 49 IO (io), 50 IO (io), 51 IO (io), 52 IO (io), 53 VCCIO (power) hidden to VCCIO, 54 IO (io), 55 IO (io), 56 IO (io), 57 IO (io), 58 IO (io), 59 IO (io), 60 IO (io), 61 GND (power) hidden to GND, 62 IO (io), 63 IO (io), 64 IO/TCK (io), 65 IO (io), 66 IO (io), 67 IO (io), 68 VCCIO (power) hidden to VCCIO, 69 IO (io), 70 IO (io), 71 IO (io), 72 IO (io), 73 IO (io), 74 IO (io), 75 IO/TDO (io), 76 GND (power) hidden to GND, 77 IO (io), 78 IO (io), 79 IO (io), 80 IO (io), 81 IO (io), 82 IO (io), 83 IO (io), 84 VCCIO (power) hidden to VCCIO, 85 IO (io), 86 IO (io), 87 IO (io), 88 GND (power) hidden to GND, 89 IN/GCLK1 (in), 90 IN/OE1 (in), 91 IN/GCLRn (in), 92 IN/OE2/GCLK2 (in), 93 VCCINT (power) hidden to VCCINT, 94 IO (io), 95 IO (io), 96 IO (io), 97 GND (power) hidden to GND, 98 IO (io), 99 IO (io), 100 IO (io)

## EPM7128STC100
designator U?
MAX7000 PROGRAMMABLE LOGIC DEVICE(128 MACRO CELLS)
footprint MS-026BED
pins: 1 IO (io), 2 IO (io), 3 VCCIO (power), 4 IO/TDI (io), 5 IO (io), 6 IO (io), 7 IO (io), 8 IO (io), 9 IO (io), 10 IO (io), 11 GND (power), 12 IO (io), 13 IO (io), 14 IO (io), 15 IO/TMS (io), 16 IO (io), 17 IO (io), 18 VCCIO (power), 19 IO (io), 20 IO (io), 21 IO (io), 22 IO (io), 23 IO (io), 24 IO (io), 25 IO (io), 26 GND (power), 27 IO (io), 28 IO (io), 29 IO (io), 30 IO (io), 31 IO (io), 32 IO (io), 33 IO (io), 34 VCCIO (power), 35 IO (io), 36 IO (io), 37 IO (io), 38 GND (power), 39 VCCINT (power), 40 IO (io), 41 IO (io), 42 IO (io), 43 GND (power), 44 IO (io), 45 IO (io), 46 IO (io), 47 IO (io), 48 IO (io), 49 IO (io), 50 IO (io), 51 VCCIO (power), 52 IO (io), 53 IO (io), 54 IO (io), 55 IO (io), 56 IO (io), 57 IO (io), 58 IO (io), 59 GND (power), 60 IO (io), 61 IO (io), 62 IO/TCK (io), 63 IO (io), 64 IO (io), 65 IO (io), 66 VCCIO (power), 67 IO (io), 68 IO (io), 69 IO (io), 70 IO (io), 71 IO (io), 72 IO (io), 73 IO/TDO (io), 74 GND (power), 75 IO (io), 76 IO (io), 77 IO (io), 78 IO (io), 79 IO (io), 80 IO (io), 81 IO (io), 82 VCCIO (power), 83 IO (io), 84 IO (io), 85 IO (io), 86 GND (power), 87 IN/GCLK1 (in), 88 IN/OE1 (in), 89 IN/GCLRn (in), 90 IN/OE2/GCLK2 (in), 91 VCCINT (power), 92 IO (io), 93 IO (io), 94 IO (io), 95 GND (power), 96 IO (io), 97 IO (io), 98 IO (io), 99 IO (io), 100 IO (io)

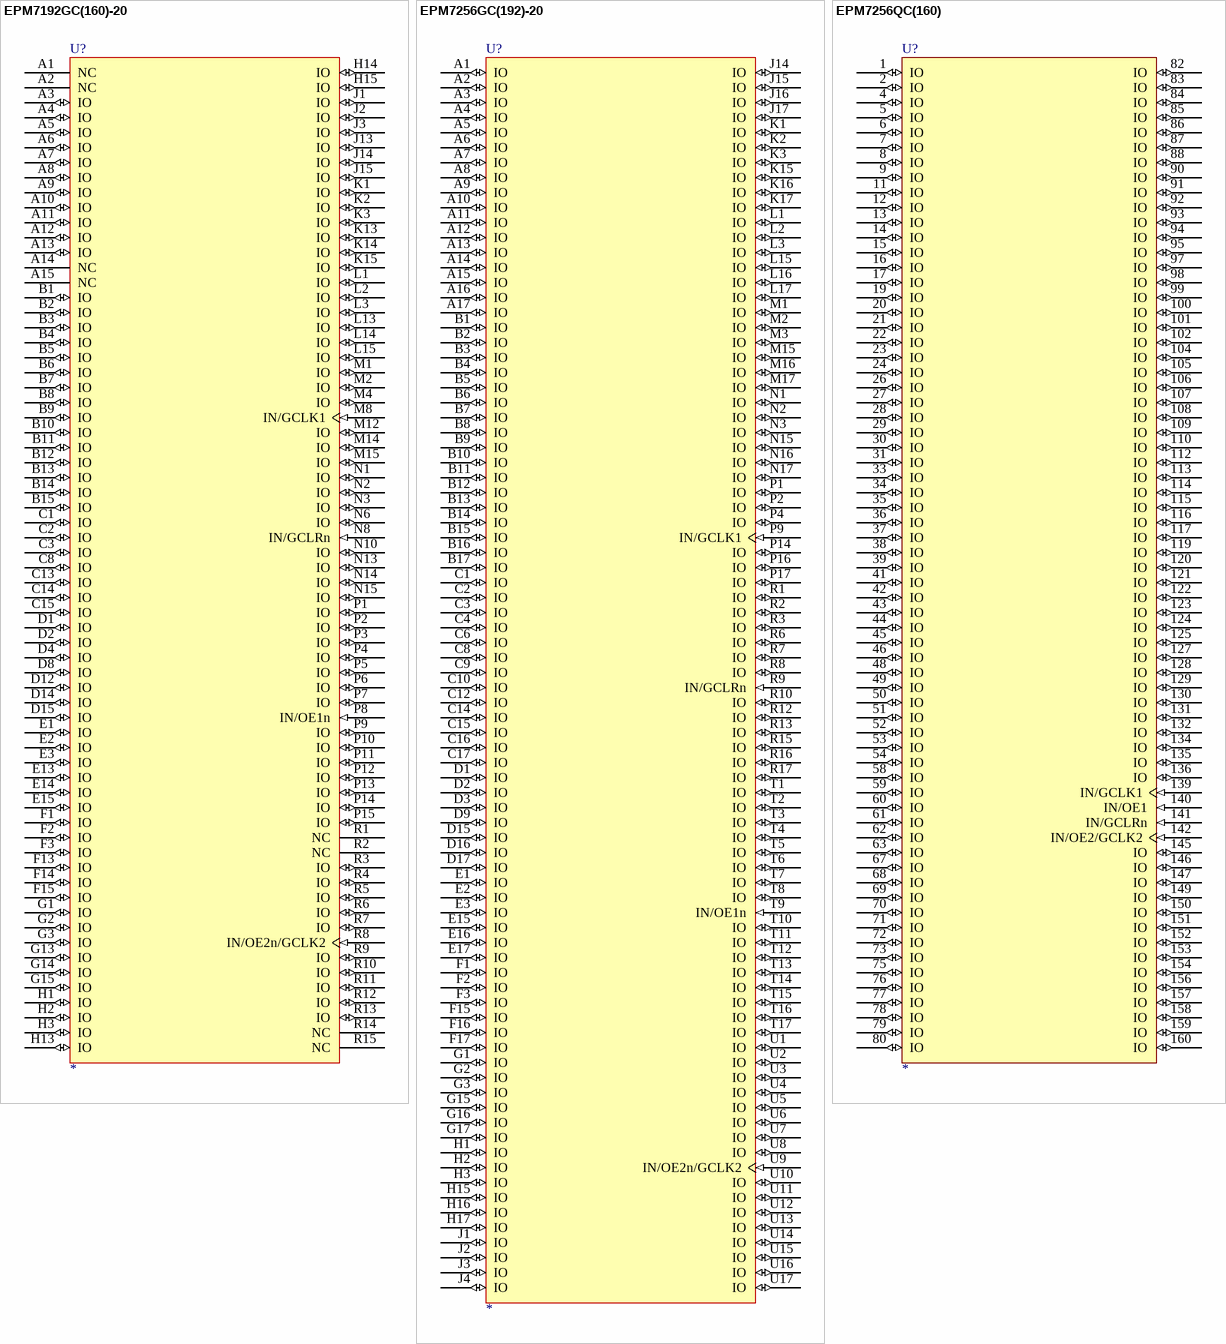
[diagram p3: symbols EPM7192GC(160)-20 to EPM7256QC(160)]

## EPM7192GC(160)-20
designator U?
MAX7000 PROGRAMMABLE LOGIC DEVICE(192 MACRO CELLS)
pins: A1 NC, A2 NC, A3 IO (io), A4 IO (io), A5 IO (io), A6 IO (io), A7 IO (io), A8 IO (io), A9 IO (io), A10 IO (io), A11 IO (io), A12 IO (io), A13 IO (io), A14 NC, A15 NC, B1 IO (io), B2 IO (io), B3 IO (io), B4 IO (io), B5 IO (io), B6 IO (io), B7 IO (io), B8 IO (io), B9 IO (io), B10 IO (io), B11 IO (io), B12 IO (io), B13 IO (io), B14 IO (io), B15 IO (io), C1 IO (io), C2 IO (io), C3 IO (io), C4 GND (power) hidden to GND, C5 VCCIO (power) hidden to VCCIO, C6 GND (power) hidden to GND, C7 VCCINT (power) hidden to VCCINT, C8 IO (io), C9 VCCINT (power) hidden to VCCINT, C10 VCCIO (power) hidden to VCCIO, C11 GND (power) hidden to GND, C12 VCCIO (power) hidden to VCCIO, C13 IO (io), C14 IO (io), C15 IO (io), D1 IO (io), D2 IO (io), D3 VCCIO (power) hidden to VCCIO, D4 IO (io), D7 GND (power) hidden to GND, D8 IO (io), D9 GND (power) hidden to GND, D12 IO (io), D13 GND (power) hidden to GND, D14 IO (io), D15 IO (io), E1 IO (io), E2 IO (io), E3 IO (io), E13 IO (io), E14 IO (io), E15 IO (io), F1 IO (io), F2 IO (io), F3 IO (io), F13 IO (io), F14 IO (io), F15 IO (io), G1 IO (io), G2 IO (io), G3 IO (io), G4 GND (power) hidden to GND, G12 VCCIO (power) hidden to VCCIO, G13 IO (io), G14 IO (io), G15 IO (io), H1 IO (io), H2 IO (io), H3 IO (io), H4 VCCIO (power) hidden to VCCIO, H12 GND (power) hidden to GND, H13 IO (io), H14 IO (io), H15 IO (io), J1 IO (io), J2 IO (io), J3 IO (io), J4 GND (power) hidden to GND, J12 VCCIO (power) hidden to VCCIO, J13 IO (io), J14 IO (io), J15 IO (io), K1 IO (io), K2 IO (io), K3 IO (io), K13 IO (io), K14 IO (io), K15 IO (io), L1 IO (io), L2 IO (io), L3 IO (io), L13 IO (io), L14 IO (io), L15 IO (io), M1 IO (io), M2 IO (io), M3 VCCIO (power) hidden to VCCIO, M4 IO (io), M7 GND (power) hidden to GND, M8 IN/GCLK1 (in), M9 GND (power) hidden to GND, M12 IO (io), M13 GND (power) hidden to GND, M14 IO (io), M15 IO (io), N1 IO (io), N2 IO (io), N3 IO (io), N4 GND (power) hidden to GND, N5 VCCIO (power) hidden to VCCIO, N6 IO (io), N7 VCCINT (power) hidden to VCCINT, N8 IN/GCLRn (in), N9 VCCINT (power) hidden to VCCINT, N10 IO (io), N11 GND (power) hidden to GND, N12 VCCIO (power) hidden to VCCIO, N13 IO (io), N14 IO (io), N15 IO (io), P1 IO (io), P2 IO (io), P3 IO (io), P4 IO (io), P5 IO (io), P6 IO (io), P7 IO (io), P8 IN/OE1n (in), P9 IO (io), P10 IO (io), P11 IO (io), P12 IO (io), P13 IO (io), P14 IO (io), P15 IO (io), R1 NC, R2 NC, R3 IO (io), R4 IO (io), R5 IO (io), R6 IO (io), R7 IO (io), R8 IN/OE2n/GCLK2 (in), R9 IO (io), R10 IO (io), R11 IO (io), R12 IO (io), R13 IO (io), R14 NC, R15 NC

## EPM7256GC(192)-20
designator U?
MAX7000 PROGRAMMABLE LOGIC DEVICE(256 MACRO CELLS)
pins: A1 IO (io), A2 IO (io), A3 IO (io), A4 IO (io), A5 IO (io), A6 IO (io), A7 IO (io), A8 IO (io), A9 IO (io), A10 IO (io), A11 IO (io), A12 IO (io), A13 IO (io), A14 IO (io), A15 IO (io), A16 IO (io), A17 IO (io), B1 IO (io), B2 IO (io), B3 IO (io), B4 IO (io), B5 IO (io), B6 IO (io), B7 IO (io), B8 IO (io), B9 IO (io), B10 IO (io), B11 IO (io), B12 IO (io), B13 IO (io), B14 IO (io), B15 IO (io), B16 IO (io), B17 IO (io), C1 IO (io), C2 IO (io), C3 IO (io), C4 IO (io), C5 VCCIO (power) hidden to VCCIO, C6 IO (io), C7 GND (power) hidden to GND, C8 IO (io), C9 IO (io), C10 IO (io), C11 VCCIO (power) hidden to VCCIO, C12 IO (io), C13 GND (power) hidden to GND, C14 IO (io), C15 IO (io), C16 IO (io), C17 IO (io), D1 IO (io), D2 IO (io), D3 IO (io), D4 GND (power) hidden to GND, D7 VCCINT (power) hidden to VCCINT, D8 GND (power) hidden to GND, D9 IO (io), D10 GND (power) hidden to GND, D11 VCCINT (power) hidden to VCCINT, D14 VCCIO (power) hidden to VCCIO, D15 IO (io), D16 IO (io), D17 IO (io), E1 IO (io), E2 IO (io), E3 IO (io), E15 IO (io), E16 IO (io), E17 IO (io), F1 IO (io), F2 IO (io), F3 IO (io), F15 IO (io), F16 IO (io), F17 IO (io), G1 IO (io), G2 IO (io), G3 IO (io), G4 VCCIO (power) hidden to VCCIO, G14 GND (power) hidden to GND, G15 IO (io), G16 IO (io), G17 IO (io), H1 IO (io), H2 IO (io), H3 IO (io), H4 GND (power) hidden to GND, H14 VCCIO (power) hidden to VCCIO, H15 IO (io), H16 IO (io), H17 IO (io), J1 IO (io), J2 IO (io), J3 IO (io), J4 IO (io), J14 IO (io), J15 IO (io), J16 IO (io), J17 IO (io), K1 IO (io), K2 IO (io), K3 IO (io), K4 VCCIO (power) hidden to VCCIO, K14 GND (power) hidden to GND, K15 IO (io), K16 IO (io), K17 IO (io), L1 IO (io), L2 IO (io), L3 IO (io), L4 GND (power) hidden to GND, L14 VCCIO (power) hidden to VCCIO, L15 IO (io), L16 IO (io), L17 IO (io), M1 IO (io), M2 IO (io), M3 IO (io), M15 IO (io), M16 IO (io), M17 IO (io), N1 IO (io), N2 IO (io), N3 IO (io), N15 IO (io), N16 IO (io), N17 IO (io), P1 IO (io), P2 IO (io), P3 VCCIO (power) hidden to VCCIO, P4 IO (io), P7 VCCINT (power) hidden to VCCINT, P8 GND (power) hidden to GND, P9 IN/GCLK1 (in), P10 GND (power) hidden to GND, P11 VCCINT (power) hidden to VCCINT, P14 IO (io), P15 GND (power) hidden to GND, P16 IO (io), P17 IO (io), R1 IO (io), R2 IO (io), R3 IO (io), R4 GND (power) hidden to GND, R5 VCCIO (power) hidden to VCCIO, R6 IO (io), R7 IO (io), R8 IO (io), R9 IN/GCLRn (in), R10 IO (io), R11 GND (power) hidden to GND, R12 IO (io), R13 IO (io), R14 VCCIO (power) hidden to VCCIO, R15 IO (io), R16 IO (io), R17 IO (io), T1 IO (io), T2 IO (io), T3 IO (io), T4 IO (io), T5 IO (io), T6 IO (io), T7 IO (io), T8 IO (io), T9 IN/OE1n (in), T10 IO (io), T11 IO (io), T12 IO (io), T13 IO (io), T14 IO (io), T15 IO (io), T16 IO (io), T17 IO (io), U1 IO (io), U2 IO (io), U3 IO (io), U4 IO (io), U5 IO (io), U6 IO (io), U7 IO (io), U8 IO (io), U9 IN/OE2n/GCLK2 (in), U10 IO (io), U11 IO (io), U12 IO (io), U13 IO (io), U14 IO (io), U15 IO (io), U16 IO (io), U17 IO (io)

## EPM7256QC(160)
designator U?
MAX7000 PROGRAMMABLE LOGIC DEVICE(256 MACRO CELLS)
pins: 1 IO (io), 2 IO (io), 3 GND (power) hidden to GND, 4 IO (io), 5 IO (io), 6 IO (io), 7 IO (io), 8 IO (io), 9 IO (io), 10 VCCIO (power) hidden to VCCIO, 11 IO (io), 12 IO (io), 13 IO (io), 14 IO (io), 15 IO (io), 16 IO (io), 17 IO (io), 18 GND (power) hidden to GND, 19 IO (io), 20 IO (io), 21 IO (io), 22 IO (io), 23 IO (io), 24 IO (io), 25 VCCIO (power) hidden to VCCIO, 26 IO (io), 27 IO (io), 28 IO (io), 29 IO (io), 30 IO (io), 31 IO (io), 32 GND (power) hidden to GND, 33 IO (io), 34 IO (io), 35 IO (io), 36 IO (io), 37 IO (io), 38 IO (io), 39 IO (io), 40 VCCIO (power) hidden to VCCIO, 41 IO (io), 42 IO (io), 43 IO (io), 44 IO (io), 45 IO (io), 46 IO (io), 47 GND (power) hidden to GND, 48 IO (io), 49 IO (io), 50 IO (io), 51 IO (io), 52 IO (io), 53 IO (io), 54 IO (io), 55 VCCIO (power) hidden to VCCIO, 56 VCCINT (power) hidden to VCCINT, 57 GND (power) hidden to GND, 58 IO (io), 59 IO (io), 60 IO (io), 61 IO (io), 62 IO (io), 63 IO (io), 64 GND (power) hidden to GND, 65 VCCINT (power) hidden to VCCINT, 66 GND (power) hidden to GND, 67 IO (io), 68 IO (io), 69 IO (io), 70 IO (io), 71 IO (io), 72 IO (io), 73 IO (io), 74 VCCIO (power) hidden to VCCIO, 75 IO (io), 76 IO (io), 77 IO (io), 78 IO (io), 79 IO (io), 80 IO (io), 81 GND (power) hidden to GND, 82 IO (io), 83 IO (io), 84 IO (io), 85 IO (io), 86 IO (io), 87 IO (io), 88 IO (io), 89 VCCIO (power) hidden to VCCIO, 90 IO (io), 91 IO (io), 92 IO (io), 93 IO (io), 94 IO (io), 95 IO (io), 96 GND (power) hidden to GND, 97 IO (io), 98 IO (io), 99 IO (io), 100 IO (io), 101 IO (io), 102 IO (io), 103 VCCIO (power) hidden to VCCIO, 104 IO (io), 105 IO (io), 106 IO (io), 107 IO (io), 108 IO (io), 109 IO (io), 110 IO (io), 111 GND (power) hidden to GND, 112 IO (io), 113 IO (io), 114 IO (io), 115 IO (io), 116 IO (io), 117 IO (io), 118 VCCIO (power) hidden to VCCIO, 119 IO (io), 120 IO (io), 121 IO (io), 122 IO (io), 123 IO (io), 124 IO (io), 125 IO (io), 126 GND (power) hidden to GND, 127 IO (io), 128 IO (io), 129 IO (io), 130 IO (io), 131 IO (io), 132 IO (io), 133 VCCIO (power) hidden to VCCIO, 134 IO (io), 135 IO (io), 136 IO (io), 137 VCCINT (power) hidden to VCCINT, 138 GND (power) hidden to GND, 139 IN/GCLK1 (in), 140 IN/OE1 (in), 141 IN/GCLRn (in), 142 IN/OE2/GCLK2 (in), 143 GND (power) hidden to GND, 144 VCCINT (power) hidden to VCCINT, 145 IO (io), 146 IO (io), 147 IO (io), 148 GND (power) hidden to GND, 149 IO (io), 150 IO (io), 151 IO (io), 152 IO (io), 153 IO (io), 154 IO (io), 155 VCCIO (power) hidden to VCCIO, 156 IO (io), 157 IO (io), 158 IO (io), 159 IO (io), 160 IO (io)

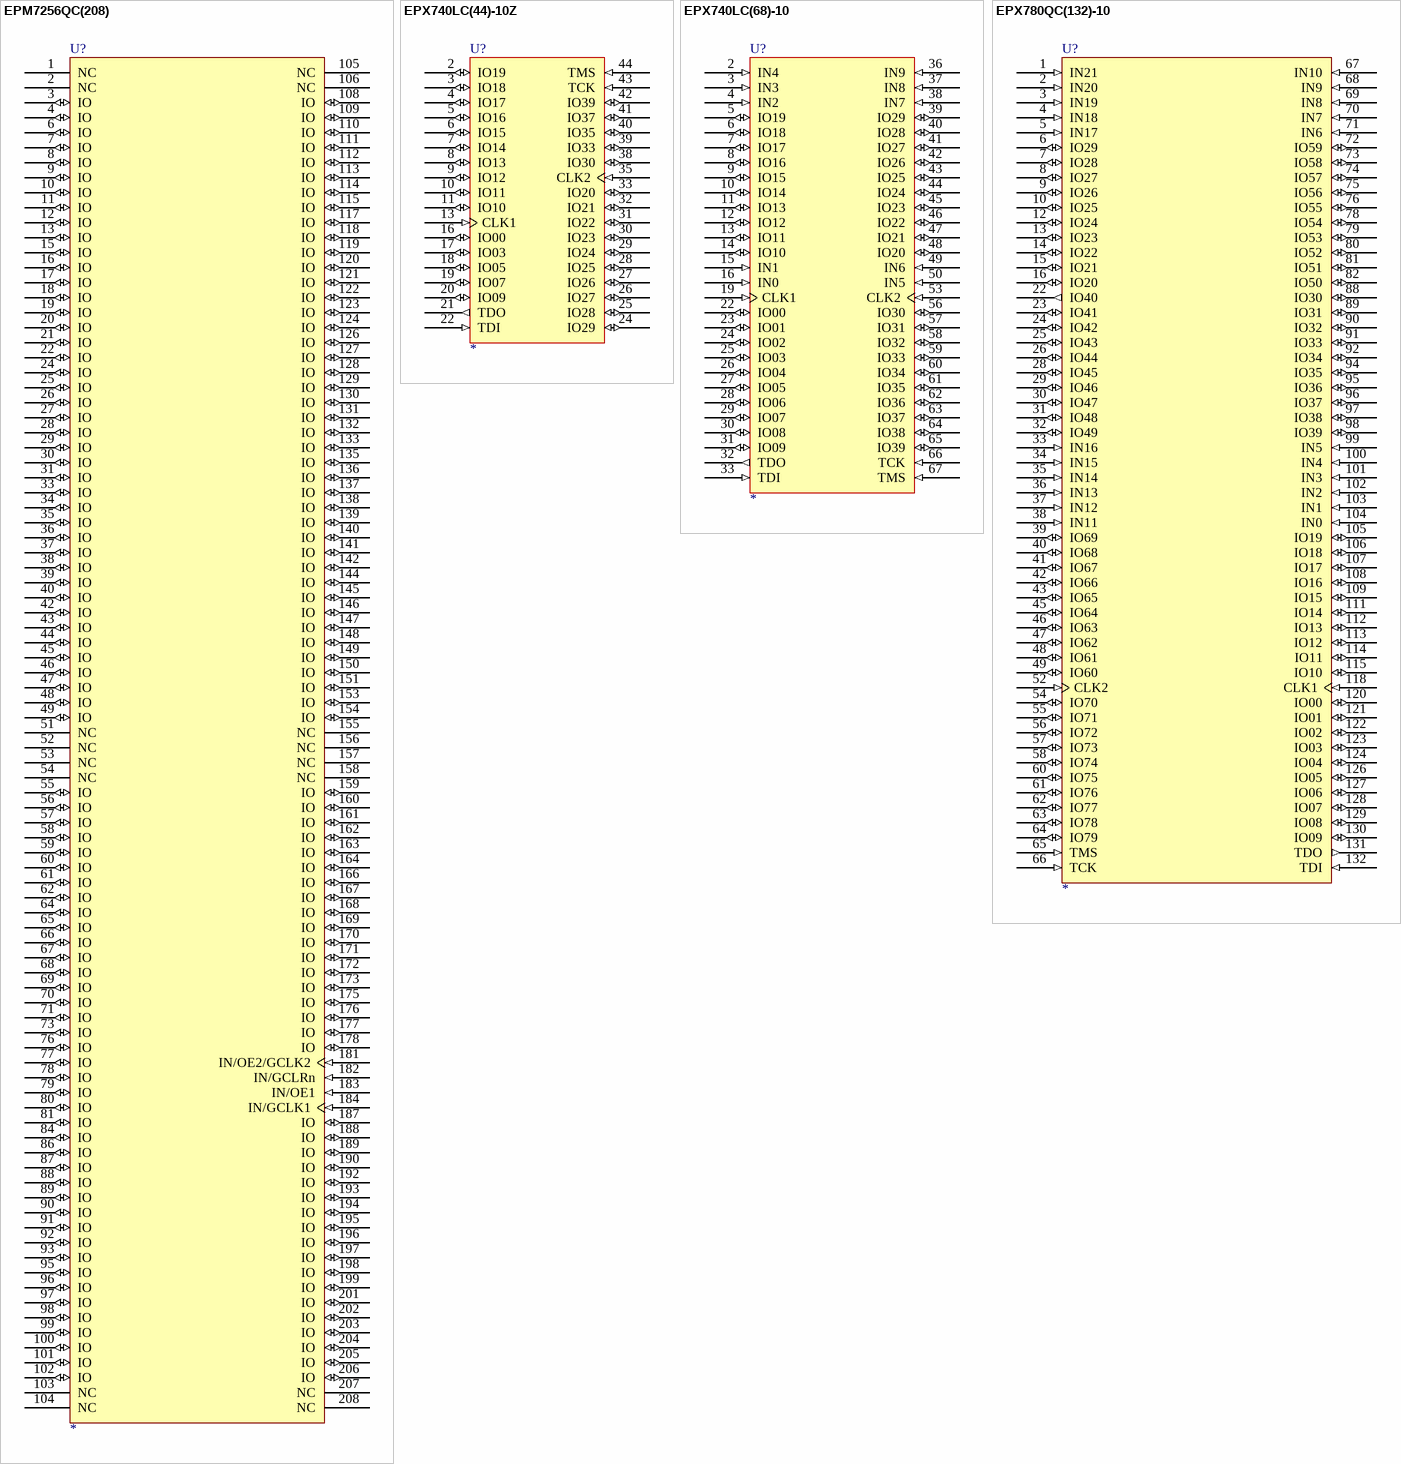
[diagram p4: symbols EPM7256QC(208) to EPX780QC(132)-10]

## EPM7256QC(208)
designator U?
MAX7000 PROGRAMMABLE LOGIC DEVICE(256 MACRO CELLS)
pins: 1 NC, 2 NC, 3 IO (io), 4 IO (io), 5 VCCIO (power) hidden to VCCIO, 6 IO (io), 7 IO (io), 8 IO (io), 9 IO (io), 10 IO (io), 11 IO (io), 12 IO (io), 13 IO (io), 14 GND (power) hidden to GND, 15 IO (io), 16 IO (io), 17 IO (io), 18 IO (io), 19 IO (io), 20 IO (io), 21 IO (io), 22 IO (io), 23 VCCIO (power) hidden to VCCIO, 24 IO (io), 25 IO (io), 26 IO (io), 27 IO (io), 28 IO (io), 29 IO (io), 30 IO (io), 31 IO (io), 32 GND (power) hidden to GND, 33 IO (io), 34 IO (io), 35 IO (io), 36 IO (io), 37 IO (io), 38 IO (io), 39 IO (io), 40 IO (io), 41 VCCIO (power) hidden to VCCIO, 42 IO (io), 43 IO (io), 44 IO (io), 45 IO (io), 46 IO (io), 47 IO (io), 48 IO (io), 49 IO (io), 50 GND (power) hidden to GND, 51 NC, 52 NC, 53 NC, 54 NC, 55 IO (io), 56 IO (io), 57 IO (io), 58 IO (io), 59 IO (io), 60 IO (io), 61 IO (io), 62 IO (io), 63 VCCIO (power) hidden to VCCIO, 64 IO (io), 65 IO (io), 66 IO (io), 67 IO (io), 68 IO (io), 69 IO (io), 70 IO (io), 71 IO (io), 72 GND (power) hidden to GND, 73 IO (io), 74 VCCINT (power) hidden to VCCINT, 75 GND (power) hidden to GND, 76 IO (io), 77 IO (io), 78 IO (io), 79 IO (io), 80 IO (io), 81 IO (io), 82 GND (power) hidden to GND, 83 VCCINT (power) hidden to VCCINT, 84 IO (io), 85 VCCIO (power) hidden to VCCIO, 86 IO (io), 87 IO (io), 88 IO (io), 89 IO (io), 90 IO (io), 91 IO (io), 92 IO (io), 93 IO (io), 94 GND (power) hidden to GND, 95 IO (io), 96 IO (io), 97 IO (io), 98 IO (io), 99 IO (io), 100 IO (io), 101 IO (io), 102 IO (io), 103 NC, 104 NC, 105 NC, 106 NC, 107 VCCIO (power) hidden to VCCIO, 108 IO (io), 109 IO (io), 110 IO (io), 111 IO (io), 112 IO (io), 113 IO (io), 114 IO (io), 115 IO (io), 116 GND (power) hidden to GND, 117 IO (io), 118 IO (io), 119 IO (io), 120 IO (io), 121 IO (io), 122 IO (io), 123 IO (io), 124 IO (io), 125 VCCIO (power) hidden to VCCIO, 126 IO (io), 127 IO (io), 128 IO (io), 129 IO (io), 130 IO (io), 131 IO (io), 132 IO (io), 133 IO (io), 134 GND (power) hidden to GND, 135 IO (io), 136 IO (io), 137 IO (io), 138 IO (io), 139 IO (io), 140 IO (io), 141 IO (io), 142 IO (io), 143 VCCIO (power) hidden to VCCIO, 144 IO (io), 145 IO (io), 146 IO (io), 147 IO (io), 148 IO (io), 149 IO (io), 150 IO (io), 151 IO (io), 152 GND (power) hidden to GND, 153 IO (io), 154 IO (io), 155 NC, 156 NC, 157 NC, 158 NC, 159 IO (io), 160 IO (io), 161 IO (io), 162 IO (io), 163 IO (io), 164 IO (io), 165 VCCIO (power) hidden to VCCIO, 166 IO (io), 167 IO (io), 168 IO (io), 169 IO (io), 170 IO (io), 171 IO (io), 172 IO (io), 173 IO (io), 174 GND (power) hidden to GND, 175 IO (io), 176 IO (io), 177 IO (io), 178 IO (io), 179 VCCINT (power) hidden to VCCINT, 180 GND (power) hidden to GND, 181 IN/OE2/GCLK2 (in), 182 IN/GCLRn (in), 183 IN/OE1 (in), 184 IN/GCLK1 (in), 185 GND (power) hidden to GND, 186 VCCINT (power) hidden to VCCINT, 187 IO (io), 188 IO (io), 189 IO (io), 190 IO (io), 191 VCCIO (power) hidden to VCCIO, 192 IO (io), 193 IO (io), 194 IO (io), 195 IO (io), 196 IO (io), 197 IO (io), 198 IO (io), 199 IO (io), 200 GND (power) hidden to GND, 201 IO (io), 202 IO (io), 203 IO (io), 204 IO (io), 205 IO (io), 206 IO (io), 207 NC, 208 NC

## EPX740LC(44)-10Z
designator U?
FLASHLOGIC PROGRAMMABLE LOGIC DEVICE(40 MACROCELLS)
footprint PLCC44
pins: 1 VSS (power) hidden to VSS, 2 IO19 (io), 3 IO18 (io), 4 IO17 (io), 5 IO16 (io), 6 IO15 (io), 7 IO14 (io), 8 IO13 (io), 9 IO12 (io), 10 IO11 (io), 11 IO10 (io), 12 VCCO0/1 (power) hidden to VCCO0/1, 13 CLK1 (in), 14 VPP (power) hidden to VPP, 15 VSS (power) hidden to VSS, 16 IO00 (io), 17 IO03 (io), 18 IO05 (io), 19 IO07 (io), 20 IO09 (io), 21 TDO (out), 22 TDI (in), 23 VCC (power) hidden to VCC, 24 IO29 (io), 25 IO28 (io), 26 IO27 (io), 27 IO26 (io), 28 IO25 (io), 29 IO24 (io), 30 IO23 (io), 31 IO22 (io), 32 IO21 (io), 33 IO20 (io), 34 VCCO2/3 (power) hidden to VCCO2/3, 35 CLK2 (in), 36 VSS (power) hidden to VSS, 37 VSS (power) hidden to VSS, 38 IO30 (io), 39 IO33 (io), 40 IO35 (io), 41 IO37 (io), 42 IO39 (io), 43 TCK (in), 44 TMS (in)

## EPX740LC(68)-10
designator U?
FLASHLOGIC PROGRAMMABLE LOGIC DEVICE(40 MACROCELLS)
footprint PLCC68
pins: 1 VSS (power) hidden to VSS, 2 IN4 (in), 3 IN3 (in), 4 IN2 (in), 5 IO19 (io), 6 IO18 (io), 7 IO17 (io), 8 IO16 (io), 9 IO15 (io), 10 IO14 (io), 11 IO13 (io), 12 IO12 (io), 13 IO11 (io), 14 IO10 (io), 15 IN1 (in), 16 IN0 (in), 17 VCCO1 (power) hidden to VCCO1, 18 VCCO0 (power) hidden to VCCO0, 19 CLK1 (in), 20 VPP (power) hidden to VPP, 21 VSS (power) hidden to VSS, 22 IO00 (io), 23 IO01 (io), 24 IO02 (io), 25 IO03 (io), 26 IO04 (io), 27 IO05 (io), 28 IO06 (io), 29 IO07 (io), 30 IO08 (io), 31 IO09 (io), 32 TDO (out), 33 TDI (in), 34 VSS (power) hidden to VSS, 35 VCC (power) hidden to VCC, 36 IN9 (in), 37 IN8 (in), 38 IN7 (in), 39 IO29 (io), 40 IO28 (io), 41 IO27 (io), 42 IO26 (io), 43 IO25 (io), 44 IO24 (io), 45 IO23 (io), 46 IO22 (io), 47 IO21 (io), 48 IO20 (io), 49 IN6 (in), 50 IN5 (in), 51 VCCO2 (power) hidden to VCCO2, 52 VCCO3 (power) hidden to VCCO3, 53 CLK2 (in), 54 VSS (power) hidden to VSS, 55 VSS (power) hidden to VSS, 56 IO30 (io), 57 IO31 (io), 58 IO32 (io), 59 IO33 (io), 60 IO34 (io), 61 IO35 (io), 62 IO36 (io), 63 IO37 (io), 64 IO38 (io), 65 IO39 (io), 66 TCK (in), 67 TMS (in), 68 VSS (power) hidden to VSS

## EPX780QC(132)-10
designator U?
FLASHLOGIC PROGRAMMABLE LOGIC DEVICE(80 MACROCELLS)
pins: 1 IN21 (in), 2 IN20 (in), 3 IN19 (in), 4 IN18 (in), 5 IN17 (in), 6 IO29 (io), 7 IO28 (io), 8 IO27 (io), 9 IO26 (io), 10 IO25 (io), 11 VSS (power) hidden to VSS, 12 IO24 (io), 13 IO23 (io), 14 IO22 (io), 15 IO21 (io), 16 IO20 (io), 17 VSS (power) hidden to VSS, 18 VSS (power) hidden to VSS, 19 VCCO2 (power) hidden to VCCO2, 20 VCCO4 (power) hidden to VCCO4, 21 VCC (power) hidden to VCC, 22 IO40 (out), 23 IO41 (io), 24 IO42 (io), 25 IO43 (io), 26 IO44 (io), 27 VSS (power) hidden to VSS, 28 IO45 (io), 29 IO46 (io), 30 IO47 (io), 31 IO48 (io), 32 IO49 (io), 33 IN16 (in), 34 IN15 (in), 35 IN14 (in), 36 IN13 (in), 37 IN12 (in), 38 IN11 (in), 39 IO69 (io), 40 IO68 (io), 41 IO67 (io), 42 IO66 (io), 43 IO65 (io), 44 VSS (power) hidden to VSS, 45 IO64 (io), 46 IO63 (io), 47 IO62 (io), 48 IO61 (io), 49 IO60 (io), 50 VCCO6 (power) hidden to VCCO6, 51 VCCO7 (power) hidden to VCCO7, 52 CLK2 (in), 53 VSS (power) hidden to VSS, 54 IO70 (io), 55 IO71 (io), 56 IO72 (io), 57 IO73 (io), 58 IO74 (io), 59 VSS (power) hidden to VSS, 60 IO75 (io), 61 IO76 (io), 62 IO77 (io), 63 IO78 (io), 64 IO79 (io), 65 TMS (in), 66 TCK (in), 67 IN10 (in), 68 IN9 (in), 69 IN8 (in), 70 IN7 (in), 71 IN6 (in), 72 IO59 (io), 73 IO58 (io), 74 IO57 (io), 75 IO56 (io), 76 IO55 (io), 77 VSS (power) hidden to VSS, 78 IO54 (io), 79 IO53 (io), 80 IO52 (io), 81 IO51 (io), 82 IO50 (io), 83 VSS (power) hidden to VSS, 84 VSS (power) hidden to VSS, 85 VCCO5 (power) hidden to VCCO5, 86 VCCO3 (power) hidden to VCCO3, 87 VCC (power) hidden to VCC, 88 IO30 (io), 89 IO31 (io), 90 IO32 (io), 91 IO33 (io), 92 IO34 (io), 93 VSS (power) hidden to VSS, 94 IO35 (io), 95 IO36 (io), 96 IO37 (io), 97 IO38 (io), 98 IO39 (io), 99 IN5 (in), 100 IN4 (in), 101 IN3 (in), 102 IN2 (in), 103 IN1 (in), 104 IN0 (in), 105 IO19 (io), 106 IO18 (io), 107 IO17 (io), 108 IO16 (io), 109 IO15 (io), 110 VSS (power) hidden to VSS, 111 IO14 (io), 112 IO13 (io), 113 IO12 (io), 114 IO11 (io), 115 IO10 (io), 116 VCCO1 (power) hidden to VCCO1, 117 VCCO0 (power) hidden to VCCO0, 118 CLK1 (in), 119 VPP (power) hidden to VPP, 120 IO00 (io), 121 IO01 (io), 122 IO02 (io), 123 IO03 (io), 124 IO04 (io), 125 VSS (power) hidden to VSS, 126 IO05 (io), 127 IO06 (io), 128 IO07 (io), 129 IO08 (io), 130 IO09 (io), 131 TDO (out), 132 TDI (in)

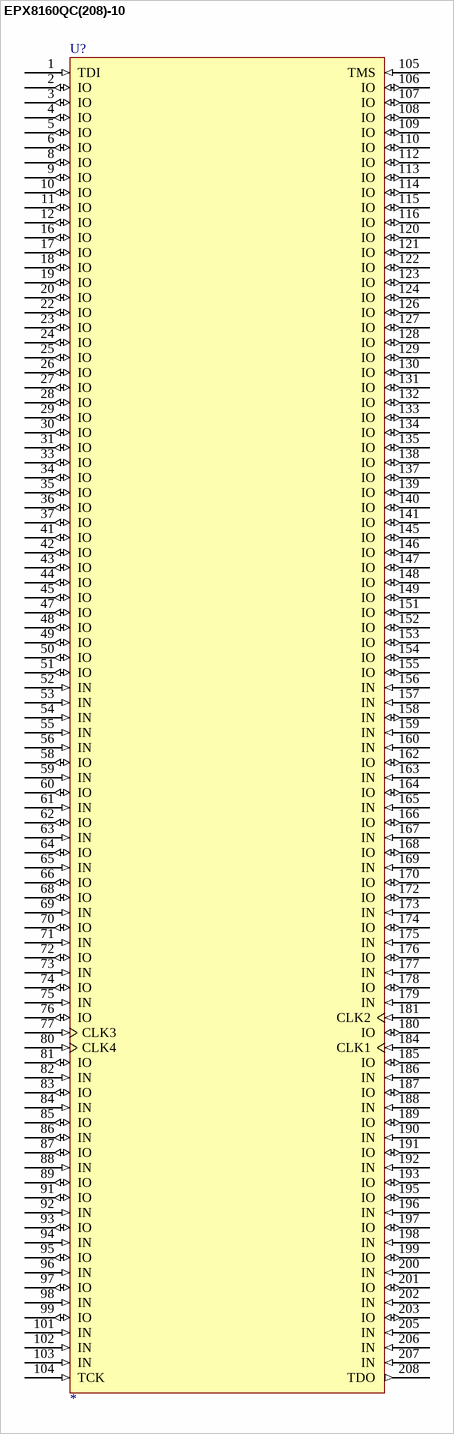
[diagram p5: symbol EPX8160QC(208)-10]

## EPX8160QC(208)-10
designator U?
FLASHLOGIC PROGRAMMABLE LOGIC DEVICE(160 MACROCELLS)
pins: 1 TDI (in), 2 IO (io), 3 IO (io), 4 IO (io), 5 IO (io), 6 IO (io), 7 VSS (power) hidden to VSS, 8 IO (io), 9 IO (io), 10 IO (io), 11 IO (io), 12 IO (io), 13 VCCO4/6 (power) hidden to VCCO4/6, 14 VCC (power) hidden to VCC, 15 VSS (power) hidden to VSS, 16 IO (io), 17 IO (io), 18 IO (io), 19 IO (io), 20 IO (io), 21 VSS (power) hidden to VSS, 22 IO (io), 23 IO (io), 24 IO (io), 25 IO (io), 26 IO (io), 27 IO (io), 28 IO (io), 29 IO (io), 30 IO (io), 31 IO (io), 32 VSS (power) hidden to VSS, 33 IO (io), 34 IO (io), 35 IO (io), 36 IO (io), 37 IO (io), 38 VSS (power) hidden to VSS, 39 VCC (power) hidden to VCC, 40 VCCO12/14 (io) hidden to VCCO12/14, 41 IO (io), 42 IO (io), 43 IO (io), 44 IO (io), 45 IO (io), 46 VSS (power) hidden to VSS, 47 IO (io), 48 IO (io), 49 IO (io), 50 IO (io), 51 IO (io), 52 IN (in), 53 IN (in), 54 IN (in), 55 IN (in), 56 IN (in), 57 VCCO8/10 (power) hidden to VCCO8/10, 58 IO (io), 59 IN (in), 60 IO (io), 61 IN (in), 62 IO (io), 63 IN (in), 64 IO (io), 65 IN (in), 66 IO (io), 67 VSS (power) hidden to VSS, 68 IO (io), 69 IN (in), 70 IO (io), 71 IN (in), 72 IO (io), 73 IN (in), 74 IO (io), 75 IN (in), 76 IO (io), 77 CLK3 (in), 78 VSS (power) hidden to VSS, 79 VPP1 (power) hidden to VPP1, 80 CLK4 (in), 81 IO (io), 82 IN (in), 83 IO (io), 84 IN (in), 85 IO (io), 86 IN (io), 87 IO (io), 88 IN (in), 89 IO (io), 90 VSS (power) hidden to VSS, 91 IO (io), 92 IN (in), 93 IO (io), 94 IN (in), 95 IO (io), 96 IN (in), 97 IO (io), 98 IN (in), 99 IO (io), 100 VCCO9/11 (power) hidden to VCCO9/11, 101 IN (in), 102 IN (in), 103 IN (in), 104 TCK (in), 105 TMS (in), 106 IO (io), 107 IO (io), 108 IO (io), 109 IO (io), 110 IO (io), 111 VSS (power) hidden to VSS, 112 IO (io), 113 IO (io), 114 IO (io), 115 IO (io), 116 IO (io), 117 VCCO13/15 (power) hidden to VCCO13/15, 118 VCC (power) hidden to VCC, 119 VSS (power) hidden to VSS, 120 IO (io), 121 IO (io), 122 IO (io), 123 IO (io), 124 IO (io), 125 VSS (power) hidden to VSS, 126 IO (io), 127 IO (io), 128 IO (io), 129 IO (io), 130 IO (io), 131 IO (io), 132 IO (io), 133 IO (io), 134 IO (io), 135 IO (io), 136 VSS (power) hidden to VSS, 137 IO (io), 138 IO (io), 139 IO (io), 140 IO (io), 141 IO (io), 142 VSS (power) hidden to VSS, 143 VCC (power) hidden to VCC, 144 VCCO5/7 (power) hidden to VCCO5/7, 145 IO (io), 146 IO (io), 147 IO (io), 148 IO (io), 149 IO (io), 150 VSS (power) hidden to VSS, 151 IO (io), 152 IO (io), 153 IO (io), 154 IO (io), 155 IO (io), 156 IN (in), 157 IN (in), 158 IN (io), 159 IN (in), 160 IN (in), 161 VCCO1/3 (power) hidden to VCCO1/3, 162 IO (io), 163 IN (in), 164 IO (io), 165 IN (in), 166 IO (io), 167 IN (in), 168 IO (io), 169 IN (in), 170 IO (io), 171 VSS (power) hidden to VSS, 172 IO (io), 173 IN (in), 174 IO (io), 175 IN (in), 176 IO (io), 177 IN (in), 178 IO (io), 179 IN (in), 180 IO (io), 181 CLK2 (in), 182 VPP0 (power) hidden to VPP0, 183 VSS (power) hidden to VSS, 184 CLK1 (in), 185 IO (io), 186 IN (in), 187 IO (io), 188 IN (in), 189 IO (io), 190 IN (in), 191 IO (io), 192 IN (in), 193 IO (io), 194 VSS (power) hidden to VSS, 195 IO (io), 196 IN (in), 197 IO (io), 198 IN (in), 199 IO (io), 200 IN (in), 201 IO (io), 202 IN (in), 203 IO (io), 204 VCCO0/2 (power) hidden to VCCO0/2, 205 IN (in), 206 IN (in), 207 IN (in), 208 TDO (out)